# Altium footprint library V2S.PcbLib: 37 footprints (part 2 of 3)
Each footprint in its own frame and in the unit in brackets; x right, y up, seen from the top. Pads: shape width x height; smd on the part's side, far side on the other; paste and mask are expansions set on the pad; w line width, h text height; cw(c..) or ccw(c..) is an arc to the next point about the centre after c.
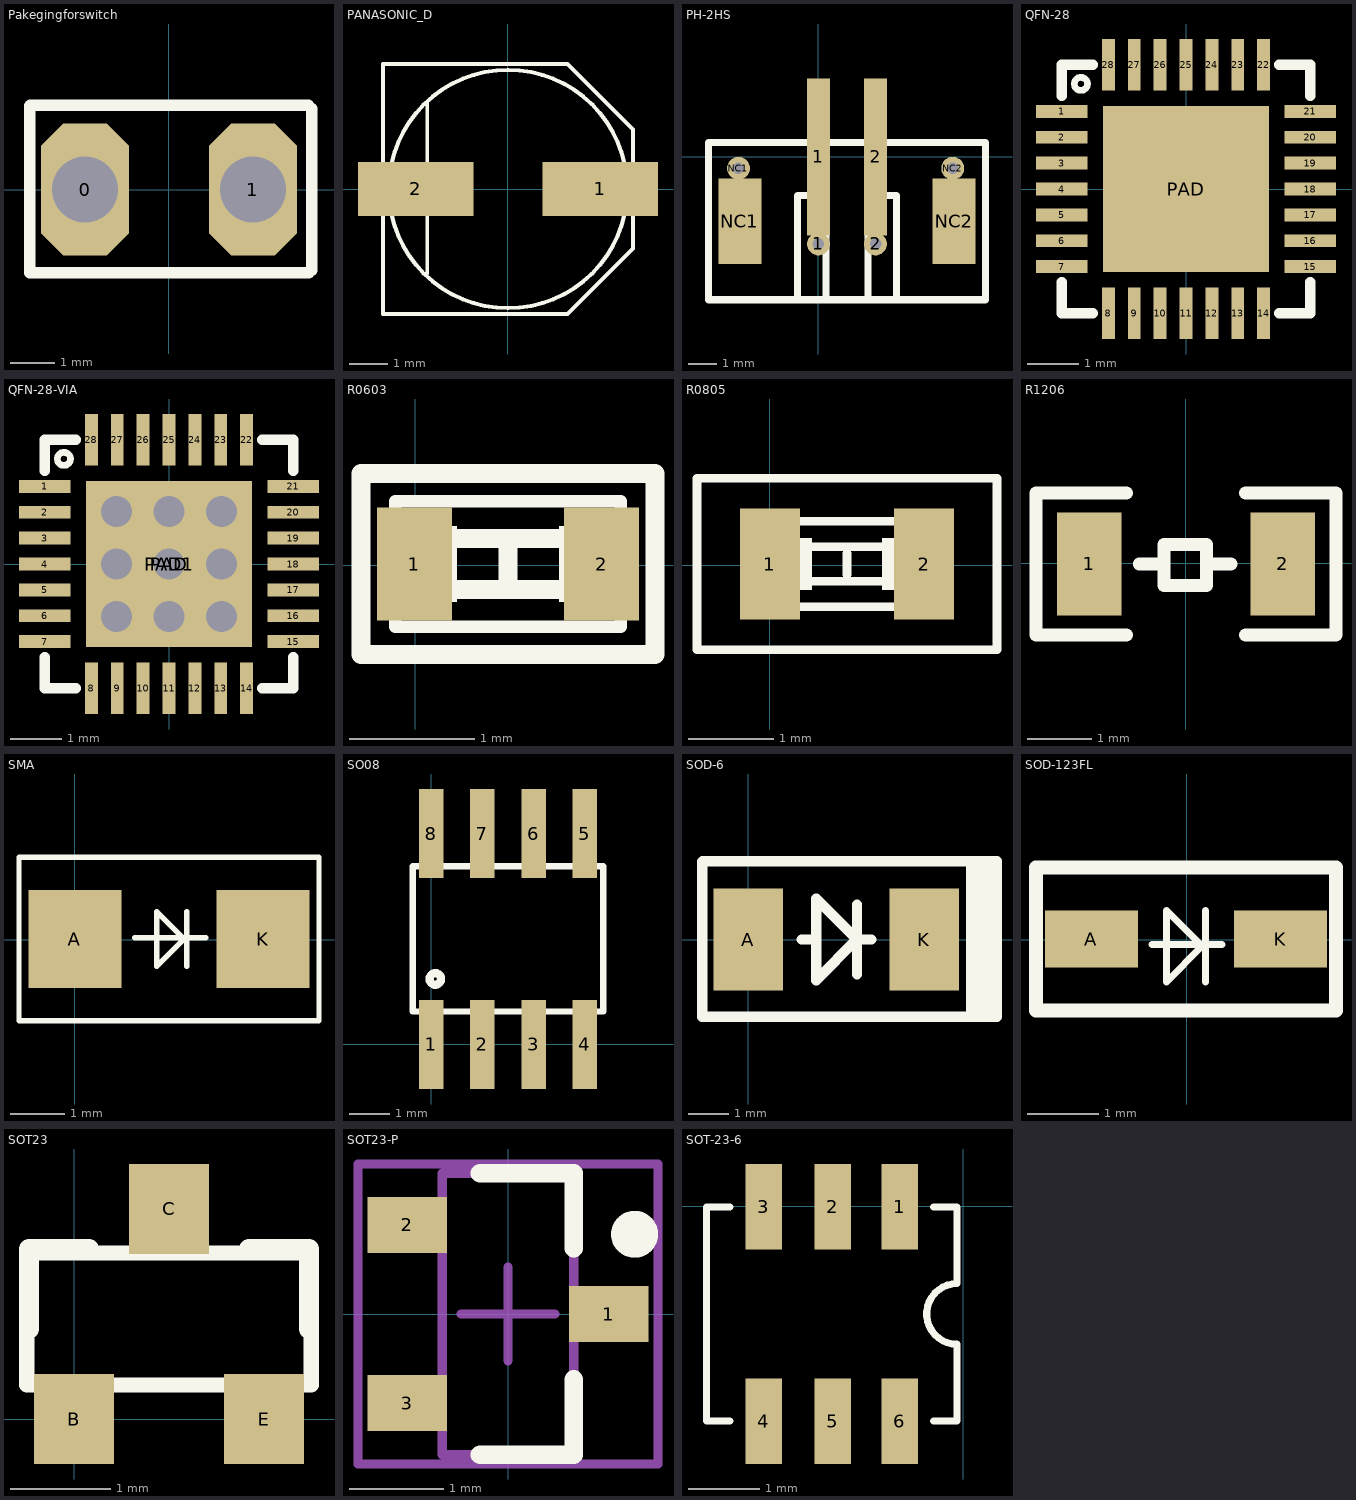
[diagram p1: the footprints below, top view; thin cyan lines are the x and y axes]

## Pakegingforswitch [mm]
pads (2):
  oct 2x3 hole 1.5 paste+0: 0(-1.905,0)
  oct 2x3 hole 1.5: 1(1.905,0)
Top Overlay:
  lines w0.254: -3.16,1.9 -3.16,-1.888 3.175,-1.888 ; -3.148,1.912 3.168,1.912 3.239,1.841 3.239,-1.838

## PANASONIC_D [mm]
pads (2):
  rect 3x1.4 smd: 1(2.408,0.005) 2(-2.392,0.005)
Top Overlay:
  circle w0.102: c0.008,0.005 r3.1
  rectangle: 3.057,-0.346 3.657,0.354
  rectangle: -3.643,-0.346 -3.043,0.354
  lines w0.102: -3.242,-0.945 -3.242,-3.245 ; -3.242,0.955 -3.242,3.255 ; -2.942,-0.945 ccw(c0.008,0.005) 2.958,-0.945 ; -2.942,0.955 cw(c0.008,0.005) 2.958,0.955 ; -2.092,-2.195 -2.092,2.255 ; 3.258,-0.945 3.258,-1.545 ; 3.258,0.955 3.258,1.555 ; -3.242,-3.245 1.558,-3.245 ; -3.242,-3.245 -3.242,3.255 ; -3.242,-3.245 1.558,-3.245 ; -3.242,3.255 1.558,3.255 ; -3.242,3.255 1.558,3.255 ; 1.558,-3.245 3.258,-1.545 ; 1.558,-3.245 3.258,-1.545 ; 1.558,3.255 3.258,1.555 ; 1.558,3.255 3.258,1.555 ; 3.258,-1.545 3.258,1.555

## PCBComponent_1 [mm]

## PH-2HS [mm]
pads (8):
  round 0.8 hole 0.4: 1(0.004,-3.05) 2(2.004,-3.05) NC1(-2.796,-0.402) NC2(4.704,-0.402)
  rect 0.8x5.5 smd: 1(0.004,-0.002) 2(2.004,-0.002)
  rect 1.5x3 smd: NC1(-2.746,-2.252) NC2(4.754,-2.252)
Top Overlay:
  lines w0.25: -0.726,-4.907 -0.726,-1.351 0.274,-1.351 0.274,-4.907 ; 1.734,-4.907 1.734,-1.351 2.734,-1.351 2.734,-4.907 ; -3.846,-5.002 5.854,-5.002 5.854,0.498 -3.846,0.498 -3.846,-5.002

## QFN-28 [mm]
pads (29):
  rect 1x0.25 smd: 1(-2.4,1.5) 2(-2.4,1) 3(-2.4,0.5) 4(-2.4,0) 5(-2.4,-0.5) 6(-2.4,-1) 7(-2.4,-1.5) 15(2.4,-1.5) 16(2.4,-1) 17(2.4,-0.5) 18(2.4,0) 19(2.4,0.5) 20(2.4,1) 21(2.4,1.5)
  rect 0.25x1 smd: 8(-1.5,-2.4) 9(-1,-2.4) 10(-0.5,-2.4) 11(0,-2.4) 12(0.5,-2.4) 13(1,-2.4) 14(1.5,-2.4) 22(1.5,2.4) 23(1,2.4) 24(0.5,2.4) 25(0,2.4) 26(-0.5,2.4) 27(-1,2.4) 28(-1.5,2.4)
  rect 3.2x3.2 smd: PAD(0,0)
Top Overlay:
  circle w0.127: c-2.032,2.032 r0.127
  lines w0.2: -2.4,-1.8 -2.4,-2.4 -1.8,-2.4 ; -2.4,1.8 -2.4,2.4 -1.8,2.4 ; 1.8,-2.4 2.4,-2.4 2.4,-1.8 ; 1.8,2.4 2.4,2.4 2.4,1.8

## QFN-28-VIA [mm]
pads (30):
  rect 1x0.25 smd: 1(-2.4,1.5) 2(-2.4,1) 3(-2.4,0.5) 4(-2.4,0) 5(-2.4,-0.5) 6(-2.4,-1) 7(-2.4,-1.5) 15(2.4,-1.5) 16(2.4,-1) 17(2.4,-0.5) 18(2.4,0) 19(2.4,0.5) 20(2.4,1) 21(2.4,1.5)
  rect 0.25x1 smd: 8(-1.5,-2.4) 9(-1,-2.4) 10(-0.5,-2.4) 11(0,-2.4) 12(0.5,-2.4) 13(1,-2.4) 14(1.5,-2.4) 22(1.5,2.4) 23(1,2.4) 24(0.5,2.4) 25(0,2.4) 26(-0.5,2.4) 27(-1,2.4) 28(-1.5,2.4)
  rect 3.2x3.2 smd: PAD(0,0)
  rect 3x3 smd far side: PAD1(0,0)
via 1.016,-1.016 diameter 1 hole 0.6
via 0,-1.016 diameter 1 hole 0.6
via -1.016,-1.016 diameter 1 hole 0.6
via -1.016,0 diameter 1 hole 0.6
via 0,0 diameter 1 hole 0.6
via 1.016,0 diameter 1 hole 0.6
via 1.016,1.016 diameter 1 hole 0.6
via 0,1.016 diameter 1 hole 0.6
via -1.016,1.016 diameter 1 hole 0.6
Top Overlay:
  circle w0.127: c-2.032,2.032 r0.127
  lines w0.2: -2.4,-1.8 -2.4,-2.4 -1.8,-2.4 ; -2.4,1.8 -2.4,2.4 -1.8,2.4 ; 1.8,-2.4 2.4,-2.4 2.4,-1.8 ; 1.8,2.4 2.4,2.4 2.4,1.8

## R0603 [mm]
pads (2):
  rect 0.6x0.9 smd: 1(-0.008,0.01) 2(1.492,0.01)
Top Overlay:
  rectangle: 0.031,-0.294 0.336,0.315
  rectangle: 1.149,-0.295 1.454,0.315
  rectangle: 1.149,-0.295 1.454,0.315
  lines w0.1: -0.158,-0.49 1.642,-0.49 1.642,0.51 -0.158,0.51 -0.158,-0.49
  lines w0.15: 0.234,-0.193 1.25,-0.193 ; 0.234,0.213 1.25,0.213 ; 0.742,-0.117 0.742,0.137 ; -0.433,-0.715 1.917,-0.715 1.917,0.735 -0.433,0.735 -0.433,-0.715

## R0805 [mm]
pads (2):
  rect 0.7x1.3 smd: 1(0.003,0.012) 2(1.803,0.012)
Top Overlay:
  rectangle: 1.309,-0.293 1.614,0.317
  rectangle: 1.309,-0.293 1.614,0.317
  rectangle: 0.191,-0.293 0.496,0.317
  lines w0.1: 0.395,-0.191 1.411,-0.191 ; 0.395,0.215 1.411,0.215 ; 0.903,-0.115 0.903,0.139 ; -0.847,-0.988 -0.847,1.012 2.653,1.012 2.653,-0.988 -0.847,-0.988 ; 0.003,-0.488 0.003,0.512 1.803,0.512 1.803,-0.488 0.003,-0.488

## R1206 [mm]
pads (2):
  rect 1x1.6 smd: 1(-1.492,-0.012) 2(1.508,-0.012)
Top Overlay:
  lines w0.2: -0.917,-1.112 -2.317,-1.112 -2.317,1.088 -0.917,1.088 ; -0.716,-0.012 -0.335,-0.012 ; -0.335,-0.342 0.325,-0.342 ; -0.335,-0.317 -0.335,0.293 0.325,0.293 ; 0.325,-0.317 0.325,0.267 ; 0.452,-0.012 0.706,-0.012 ; 0.933,-1.112 2.333,-1.112 2.333,1.088 0.933,1.088

## SMA [mm]
pads (2):
  rect 1.7x1.8 smd: A(0.003,0.011) K(3.453,0.011)
Top Overlay:
  lines w0.1: 1.103,0.036 2.403,0.036 ; 2.053,-0.489 2.053,0.511 ; -1.022,-1.489 -1.022,1.511 4.478,1.511 4.478,-1.489 -1.022,-1.489 ; 1.503,-0.489 1.503,0.511 2.003,0.011 1.503,-0.489

## SO08 [mil]
pads (8):
  rect 24x87 smd: 1(0.13,-0.42) 2(50.13,-0.42) 3(100.13,-0.42) 4(150.13,-0.42) 5(150.13,205.58) 6(100.13,205.58) 7(50.13,205.58) 8(0.13,205.58)
Top Overlay:
  circle w8: c4.13,63.58 r5.65
  rectangle: -6.87,-10.42 7.13,29.58
  rectangle: 43.13,-10.42 57.13,29.58
  rectangle: 93.13,-10.42 107.13,29.58
  rectangle: 143.13,-10.42 157.13,29.58
  rectangle: -6.87,175.58 7.13,215.58
  rectangle: 43.13,175.58 57.13,215.58
  rectangle: 93.13,175.58 107.13,215.58
  rectangle: 143.13,175.58 157.13,215.58
  lines w6: -17.87,31.6 168.12,31.6 168.12,173.57 -17.87,173.57 -17.87,31.6

## SOD-6 [mm]
pads (2):
  rect 1.7x2.5 smd: A(-0.007,0.004) K(4.311,0.004)
Top Overlay:
  lines w0.254: -1.13,1.909 -1.13,-1.879 6.089,-1.879 ; -1.118,1.921 6.089,1.921 ; 1.31,0.009 1.66,0.009 ; 2.66,-0.841 2.66,0.859 ; 3.01,0.009 2.66,0.009 ; 5.46,-1.829 5.46,1.921 ; 5.581,-1.875 5.581,1.884 ; 6.089,-1.875 6.089,1.884 ; 2.66,0.009 1.66,-0.991 1.66,1.009 2.66,0.009
  lines w0.5: 5.853,-1.658 5.853,1.799

## SOD-123FL [mm]
pads (2):
  rect 1.3x0.8 smd: A(-1.334,0.009) K(1.316,0.009)
Top Overlay:
  lines w0.1: -0.484,-0.066 0.491,-0.066 ; 0.266,-0.591 0.266,0.409 ; -0.284,-0.591 -0.284,0.409 0.216,-0.091 -0.284,-0.591
  lines w0.2: -2.109,-0.991 2.091,-0.991 2.091,1.009 -2.109,1.009 -2.109,-0.991

## SOT23 [mm]
pads (3):
  rect 0.8x0.9 smd: B(0,0) C(0.95,2.1) E(1.9,0)
Top Overlay:
  lines w0.152: -0.472,0.34 -0.472,1.66 2.372,1.66 2.372,0.34 -0.472,0.34
  lines w0.203: -0.45,0.9 -0.45,1.7 0.15,1.7 ; 1.75,1.7 2.35,1.7 2.35,0.9

## SOT23-P [mm]
pads (3):
  rect 0.85x0.6 smd: 1(1.075,0) 2(-1.075,0.95) 3(-1.075,-0.95)
Top Overlay:
  circle w0.25: c1.35,0.85 r0.125
  lines w0.2: -0.3,-1.5 0.7,-1.5 0.7,-0.7 ; -0.3,1.5 0.7,1.5 0.7,0.7
Mechanical 13:
  lines w0.1: -0.7,-1.5 0.7,-1.5 0.7,1.5 -0.7,1.5 -0.7,-1.5
Mechanical 15:
  lines w0.1: -0.5,0 0.5,0 ; 0,-0.5 0,0.5 ; -1.6,-1.6 1.6,-1.6 1.6,1.6 -1.6,1.6 -1.6,-1.6
3D body: height 1.1, standoff 0, extent -0.7,-1.5 0.7,1.5

## SOT-23-6 [mm]
pads (6):
  rect 0.508x1.2 smd: 1(-0.89,-0.008) 2(-1.83,-0.008) 3(-2.795,-0.008) 4(-2.795,-3.008) 5(-1.83,-3.008) 6(-0.89,-3.008)
Top Overlay:
  lines w0.1: -3.27,-3.008 -3.595,-3.008 -3.595,-1.933 -3.595,-0.008 -3.27,-0.008 ; -0.415,-3.008 -0.09,-3.008 -0.09,-1.933 ; -0.415,-0.008 -0.09,-0.008 -0.09,-1.083 ccw(c-0.09,-1.508) -0.09,-1.932